# Altium footprint library 基本元件.PcbLib: 39 footprints (part 2 of 3)
Each footprint in its own frame and in the unit in brackets; x right, y up, seen from the top. Pads: shape width x height; smd on the part's side, far side on the other; paste and mask are expansions set on the pad; w line width, h text height; cw(c..) or ccw(c..) is an arc to the next point about the centre after c.
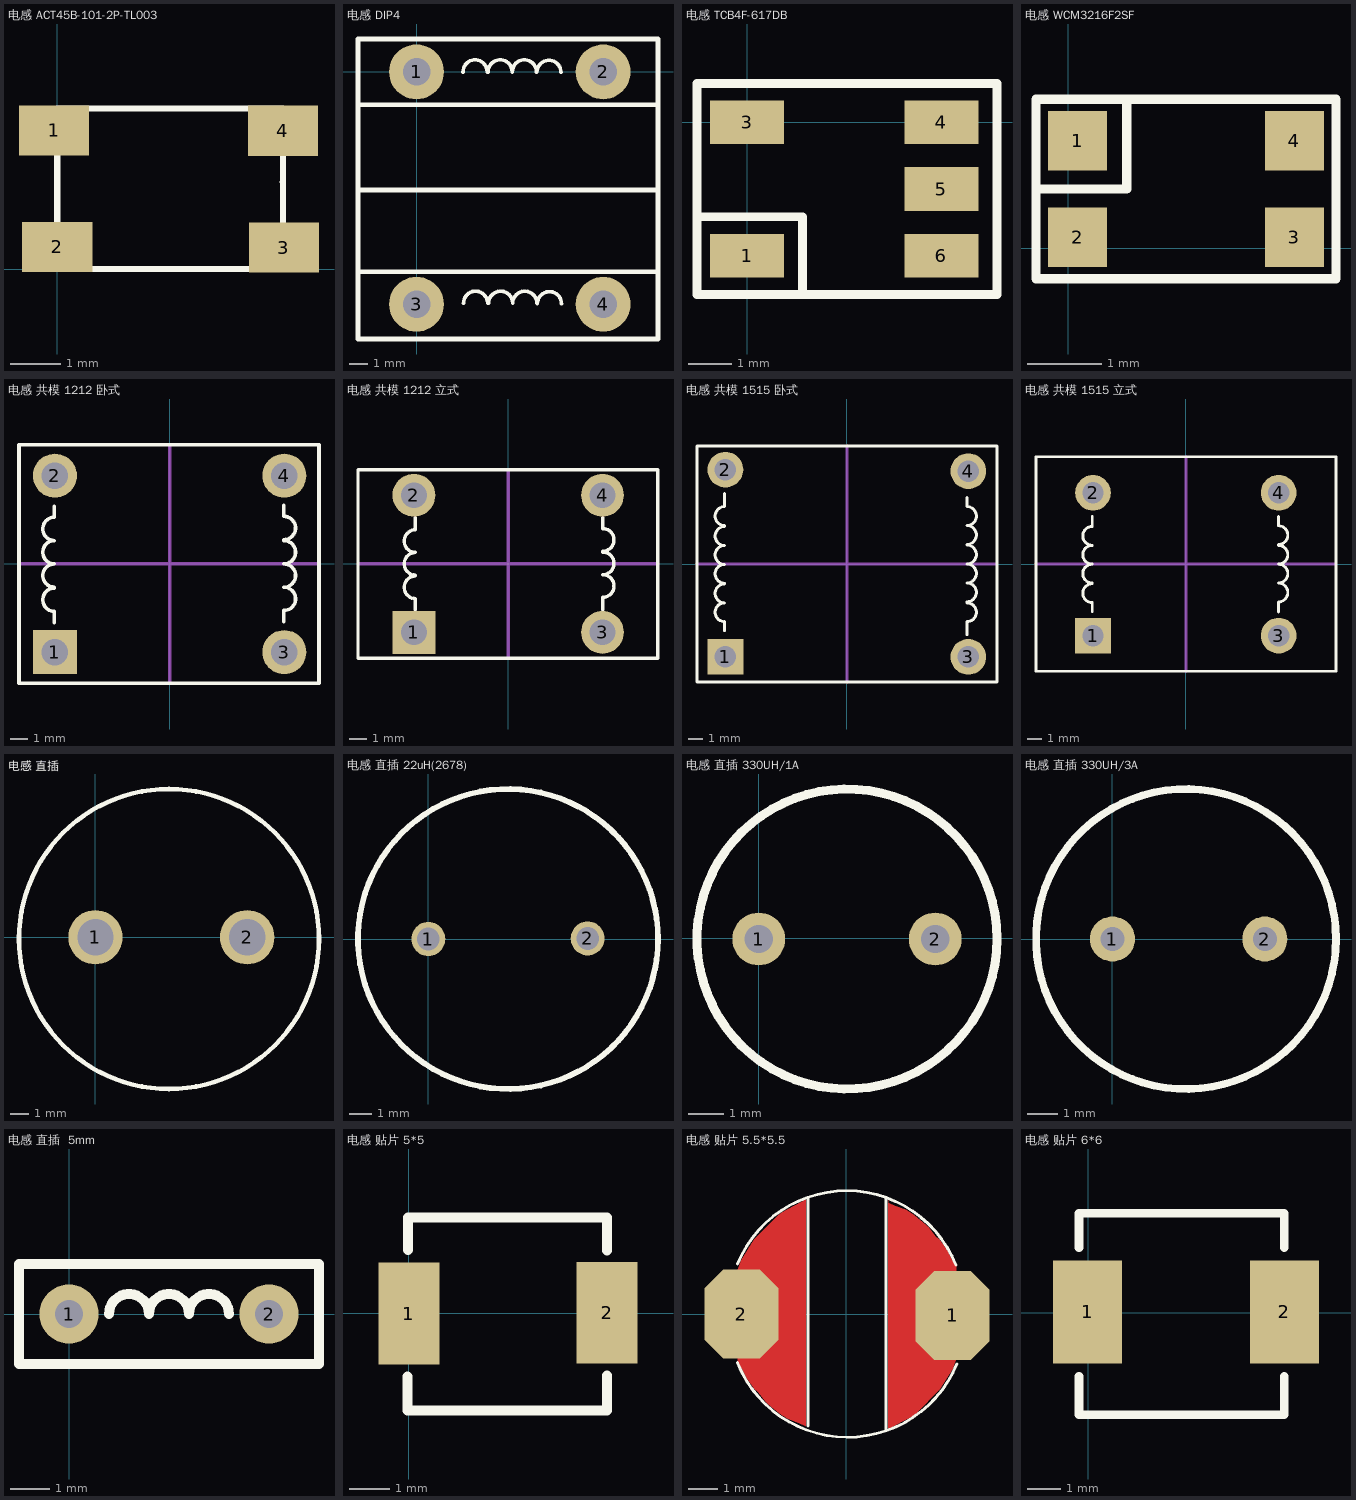
[diagram p1: the footprints below, top view; thin cyan lines are the x and y axes]

## 电感 ACT45B-101-2P-TL003 [mm]
pads (4):
  rect 1.4x1 smd: 1(-0.061,2.764) 2(0,0.439) 3(4.519,0.427) 4(4.501,2.756)
Top Overlay:
  lines w0.127: 0,1.463 0.003,1.466 ; 4.497,1.734 4.5,1.737 ; 0,0 4.5,0 4.5,3.2 0,3.2 0,0

## 电感 DIP4 [mm]
pads (4):
  round 3 hole 1.5: 1(0,0) 2(10.2,0) 3(0,-12.7) 4(10.2,-12.7)
Top Overlay:
  lines w0.178: 13.098,-6.452 13.2,-6.35
  lines w0.203: 2.54,0 cw(c3.201,0) 3.861,0 ; 2.565,-12.649 cw(c3.226,-12.649) 3.887,-12.649 ; 3.912,0 cw(c4.572,0) 5.233,0 cw(c5.893,0) 6.554,0 ; 3.937,-12.649 cw(c4.598,-12.649) 5.258,-12.649 cw(c5.918,-12.649) 6.579,-12.649 ; 6.579,-0.025 cw(c7.239,-0.025) 7.9,-0.025 ; 6.604,-12.675 cw(c7.265,-12.675) 7.925,-12.675
  lines w0.254: -3.2,-10.922 13.149,-10.922 ; -3.2,-6.452 13.098,-6.452 ; -3.2,-1.803 13.2,-1.803 ; -3.2,-14.6 13.2,-14.6 13.2,1.8 -3.2,1.8 -3.2,-14.6

## 电感 TCB4F-617DB [mm]
pads (5):
  rect 1.7x1 smd: 1(0,-3.048) 3(0,0) 4(4.445,0) 5(4.445,-1.524) 6(4.445,-3.048)
Top Overlay:
  lines w0.203: -1.143,-2.159 1.27,-2.159 1.27,-3.937 ; -1.143,-3.937 5.715,-3.937 5.715,0.889 -1.143,0.889 -1.143,-3.937

## 电感 WCM3216F2SF [mm]
pads (4):
  rect 0.8x0.8 smd: 1(0.127,1.448) 2(0.127,0.152) 3(3.048,0.152) 4(3.048,1.448)
Top Overlay:
  lines w0.127: -0.432,0.8 0.787,0.8 0.787,2.007 ; -0.432,-0.406 -0.432,2.007 3.607,2.007 3.607,-0.406 -0.432,-0.406

## 电感 共模 1212 卧式 [mm]
pads (4):
  rect 2.5x2.5 hole 1.5: 1(-6.5,-5)
  round 2.5 hole 1.5: 2(-6.5,5) 3(6.5,-5) 4(6.5,5)
Top Overlay:
  lines w0.203: -6.528,-3.327 -6.528,-2.692 cw(c-6.528,-2.032) -6.528,-1.371 ; -6.528,-1.321 cw(c-6.528,-0.66) -6.528,0 cw(c-6.528,0.661) -6.528,1.321 cw(c-6.528,1.982) -6.528,2.642 -6.528,3.277 ; 6.477,-3.277 6.477,-2.642 ccw(c6.477,-1.982) 6.477,-1.321 ccw(c6.477,-0.661) 6.477,0 ccw(c6.477,0.66) 6.477,1.321 ; 6.477,1.371 ccw(c6.477,2.032) 6.477,2.692 6.477,3.327 ; -8.534,-6.756 8.466,-6.756 8.466,6.744 -8.534,6.744 -8.534,-6.756
Mechanical 1:
  lines w0.203: -8.534,0 8.458,0 ; 0,-6.756 0,6.68

## 电感 共模 1212 立式 [mm]
pads (4):
  rect 2.5x2.5 hole 1.5: 1(-5.5,-4)
  round 2.5 hole 1.5: 2(-5.5,4) 3(5.5,-4) 4(5.5,4)
Top Overlay:
  lines w0.203: -5.41,-2.667 -5.41,-2.032 cw(c-5.41,-1.371) -5.41,-0.711 ; -5.41,-0.66 cw(c-5.41,0) -5.41,0.661 cw(c-5.41,1.321) -5.41,1.982 -5.41,2.692 ; 5.512,-2.667 5.512,-1.956 ccw(c5.512,-1.296) 5.512,-0.635 ccw(c5.512,0.025) 5.512,0.686 ; 5.512,0.736 ccw(c5.512,1.397) 5.512,2.057 5.512,2.692 ; -8.763,-5.512 -8.763,5.488 8.737,5.488 8.737,-5.512 -8.763,-5.512
Mechanical 1:
  lines w0.203: -8.763,0 8.738,0 ; -0.025,5.486 0,5.461 0,-5.512

## 电感 共模 1515 卧式 [mm]
pads (4):
  rect 2.5x2.5 hole 1.5: 1(-8.5,-6.5)
  round 2.5 hole 1.5: 2(-8.5,6.6) 3(8.5,-6.5) 4(8.5,6.5)
Top Overlay:
  lines w0.203: -10.49,8.245 -10.49,-8.255 10.51,-8.255 10.51,8.255 -10.49,8.255 ; -8.56,-4.674 -8.56,-4.039 cw(c-8.56,-3.378) -8.56,-2.718 cw(c-8.56,-2.057) -8.56,-1.397 ; -8.56,-1.346 cw(c-8.56,-0.686) -8.56,-0.025 cw(c-8.56,0.635) -8.56,1.296 cw(c-8.56,1.956) -8.56,2.617 ; -8.56,2.692 cw(c-8.56,3.353) -8.56,4.014 -8.56,4.928 ; 8.407,-4.953 8.407,-4.039 ccw(c8.407,-3.378) 8.407,-2.717 ; 8.407,-2.642 ccw(c8.407,-1.981) 8.407,-1.321 ccw(c8.407,-0.66) 8.407,0 ccw(c8.407,0.661) 8.407,1.321 ; 8.407,1.372 ccw(c8.407,2.032) 8.407,2.693 ccw(c8.407,3.353) 8.407,4.014 ; 8.407,4.014 8.407,4.649
Mechanical 1:
  lines w0.203: -10.49,-0.005 10.49,-0.005 ; 0.01,-8.255 0.01,8.255

## 电感 共模 1515 立式 [mm]
pads (4):
  rect 2.5x2.5 hole 1.5: 1(-6.5,-5)
  round 2.5 hole 1.5: 2(-6.5,5) 3(6.5,-5) 4(6.5,5)
Top Overlay:
  lines w0.203: -10.49,7.507 -10.49,-7.493 10.51,-7.493 10.51,7.518 -10.49,7.518 ; -6.553,-3.327 -6.553,-2.692 cw(c-6.553,-2.032) -6.553,-1.371 ; -6.553,-1.321 cw(c-6.553,-0.66) -6.553,0 cw(c-6.553,0.661) -6.553,1.321 cw(c-6.553,1.982) -6.553,2.642 -6.553,3.353 ; 6.477,-3.353 6.477,-2.642 ccw(c6.477,-1.982) 6.477,-1.321 ccw(c6.477,-0.661) 6.477,0 ccw(c6.477,0.66) 6.477,1.321 ; 6.477,1.371 ccw(c6.477,2.032) 6.477,2.692 6.477,3.327
Mechanical 1:
  lines w0.203: -10.49,0.007 10.49,0.007 ; 0.01,-7.493 0.01,7.518

## 电感 直插 [mm]
pads (2):
  round 3 hole 2: 1(0,0) 2(8.382,0)
Top Overlay:
  circle w0.254: c4.064,-0.098 r8.285

## 电感 直插 22uH(2678) [mm]
pads (2):
  round 1.5 hole 1: 1(0,0) 2(7.01,0.025)
Top Overlay:
  circle w0.254: c3.505,0 r6.6

## 电感 直插 330UH/1A [mm]
pads (2):
  round 1.5 hole 0.8: 1(0,-0.025) 2(5,-0.025)
Top Overlay:
  circle w0.254: c2.5,-0.025 r4.25

## 电感 直插 330UH/3A [mm]
pads (2):
  round 1.5 hole 0.8: 1(0,0) 2(5.08,0)
Top Overlay:
  circle w0.254: c2.451,0 r5

## 电感 直插  5mm [mm] "Resistor; 2 Leads"
height 2.032
pads (2):
  round 1.5 hole 0.7: 1(0,0) 2(5.08,0)
Top Overlay:
  lines w0.254: 1.016,0 cw(c1.524,0) 2.032,0 cw(c2.54,0) 3.048,0 cw(c3.556,0) 4.064,0 ; -1.27,-1.27 6.35,-1.27 6.35,1.27 -1.27,1.27 -1.27,-1.27

## 电感 贴片 5*5 [mm]
pads (2):
  rect 1.535x2.552 smd: 1(0.003,-0.005) 2(4.961,0.018)
Top Overlay:
  lines w0.254: -0.036,-1.577 -0.036,-2.433 4.961,-2.433 4.961,-1.549 ; -0.018,1.587 -0.018,2.405 4.961,2.405 4.961,1.58

## 电感 贴片 5.5*5.5 [mil]
pads (2):
  oct 100.11x120.48 smd: 1(144,-1.97) 2(-142,0)
Top Layer:
  region: 151,-59 149.27,-60.73 144,-74 127,-102 94,-135 89,-139 74,-147 61,-154 57,-158 57,156 57,153 57,150.6 66,147 81,141 92,134 108,121 110,119 111,118 121,105 126,101 136,87 143,74 149.57,64.62 149,64.05 149,49
  region: -149,58 -147.27,59.73 -142,73 -125,101 -92,134 -87,138 -72,146 -59,153 -55,157 -55,-152 -64,-148 -79,-142 -90,-135 -106,-122 -108,-120 -109,-119 -119,-106 -124,-102 -134,-88 -141,-75 -147.57,-65.62 -147,-65.05 -147,-50
Top Overlay:
  lines w3.94: -52,-152 -52,157 ; 54,-157 54,157
  lines w4: -147.57,-65.62 ccw(c1.65,-6.49) 150.13,-67.46 ; -147.27,67.93 cw(c0.35,7.49) 148.51,66.6
Top Solder:
  region: 151,-59 149.27,-60.73 144,-74 127,-102 94,-135 89,-139 74,-147 61,-154 57,-158 57,156 57,150 57,153 57,150.6 66,147 81,141 92,134 108,121 110,119 111,118 121,105 126,101 136,87 143,74 149.57,64.62 149,64.05 149,49
  region: -148.5,58.5 -146.77,60.23 -141.5,73.5 -124.5,101.5 -91.5,134.5 -86.5,138.5 -71.5,146.5 -58.5,153.5 -54.5,157.5 -54.5,-151.1 -78.5,-141.5 -89.5,-134.5 -105.5,-121.5 -107.5,-119.5 -108.5,-118.5 -118.5,-105.5 -123.5,-101.5 -133.5,-87.5 -140.5,-74.5 -147.07,-65.12 -146.5,-64.55 -146.5,-49.5

## 电感 贴片 6*6 [mil]
pads (2):
  rect 80.42x120.48 smd: 1(-1,1) 2(229,1)
Top Overlay:
  lines w10: -11,-74 -11,-119 229,-119 229,-74 ; -11,76 -11,116 229,116 229,76